# EAGLE library part ADXL345 (library analog-devices)
3-Axis, 2g/4g/8g/16g Digital Accelerometer SPI(3-4wire), I2C in LGA14 Package Source: http://www.analog.com/static/imported-files/data_sheets/ADXL345-EP.pdf
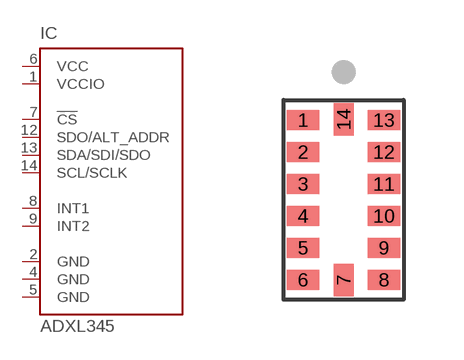
[diagram p0: symbol with the pads of LGA14; footprint LGA14]

Designator prefix IC

## ADXL345  [LGA14]
1  VCCIO  pwr
2  GND  pwr
4  GND  pwr
5  GND  pwr
6  VCC  pwr
7  !CS  in
8  INT1  out
9  INT2  out
12  SDO/ALT_ADDR  out
13  SDA/SDI/SDO
14  SCL/SCLK  in

## Footprint LGA14 (pad centres in mm)
LGA14 Package
smd 0.813 x 0.5: 1 -1.01,2; 2 -1.01,1.2; 3 -1.01,0.4; 4 -1.01,-0.4; 5 -1.01,-1.2; 6 -1.01,-2; 8 1.01,-2; 9 1.01,-1.2; 10 1.01,-0.4; 11 1.01,0.4; 12 1.01,1.2; 13 1.01,2
smd 0.5 x 0.813: 7 0,-2.01; 14 0,2.01